# Altium integrated library PIC16F689-I_SO.IntLib: 1 symbol
Pins are listed as number, name and electrical type; pins without a type are passive.

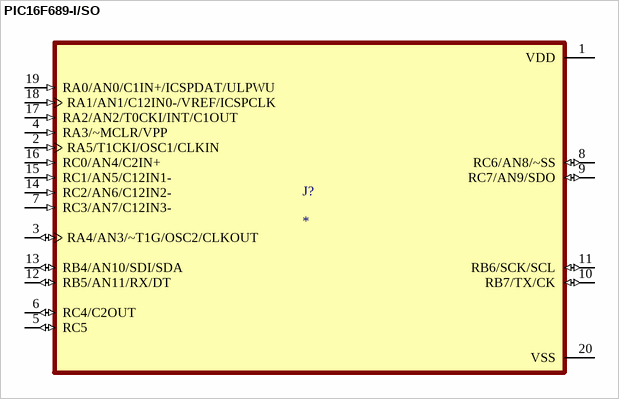
[diagram p0: symbol PIC16F689-I/SO]

## PIC16F689-I/SO
designator J?
MP: PIC16F689-I/SO; Package: None; Price: None; Value: *; Availability: Unavailable
footprint SOIC127P1032X265-20N
pins: 1 VDD (power), 2 RA5/T1CKI/OSC1/CLKIN (in), 3 RA4/AN3/~T1G/OSC2/CLKOUT (io), 4 RA3/~MCLR/VPP (in), 5 RC5 (io), 6 RC4/C2OUT (io), 7 RC3/AN7/C12IN3- (in), 8 RC6/AN8/~SS (io), 9 RC7/AN9/SDO (io), 10 RB7/TX/CK (io), 11 RB6/SCK/SCL (io), 12 RB5/AN11/RX/DT (io), 13 RB4/AN10/SDI/SDA (io), 14 RC2/AN6/C12IN2- (in), 15 RC1/AN5/C12IN1- (in), 16 RC0/AN4/C2IN+ (in), 17 RA2/AN2/T0CKI/INT/C1OUT (in), 18 RA1/AN1/C12IN0-/VREF/ICSPCLK (in), 19 RA0/AN0/C1IN+/ICSPDAT/ULPWU (in), 20 VSS (power)